# EAGLE library part ADA4851-1YRJZ-RL7 (library MotorControllerEagleLibrary)
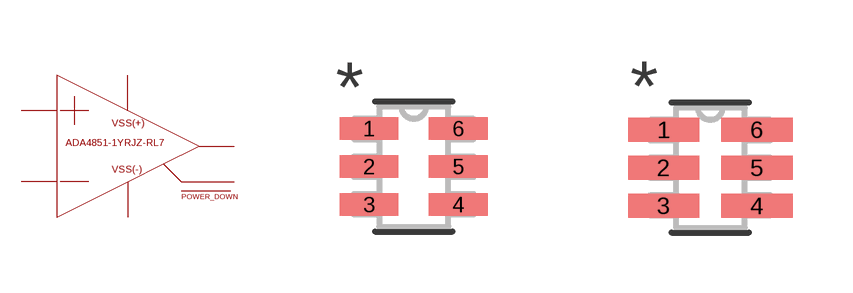
[diagram p4: symbol with the pads of RJ_6; footprints RJ_6, RJ_6-M]

Designator prefix U

## ADA4851-1YRJZ-RL7 (MANUFACTURER_PART_NUMBER: ADA48511YRJZRL7; VENDOR: Analog Devices Inc)  [RJ_6]
1  1
2  2
3  3
4  4
5  5
6  6

## ADA4851-1YRJZ-RL7RJ_6-M (MANUFACTURER_PART_NUMBER: ADA48511YRJZRL7; VENDOR: Analog Devices Inc)  [RJ_6-M]
Pads as for RJ_6

## ADA4851-1YRJZ-RL7RJ_6-L (MANUFACTURER_PART_NUMBER: ADA48511YRJZRL7; VENDOR: Analog Devices Inc)  [RJ_6-L]
Pads as for RJ_6

## Footprint RJ_6 (pad centres in mm)
smd 1.473 x 0.559: 1 -1.118,0.95; 2 -1.118,0; 3 -1.118,-0.95; 4 1.118,-0.95; 5 1.118,0; 6 1.118,0.95

## Footprint RJ_6-M (pad centres in mm)
smd 1.778 x 0.61: 1 -1.168,0.95; 2 -1.168,0; 3 -1.168,-0.95; 4 1.168,-0.95; 5 1.168,0; 6 1.168,0.95

## Footprint RJ_6-L (pad centres in mm)
smd 1.168 x 0.508: 1 -1.067,0.95; 2 -1.067,0; 3 -1.067,-0.95; 4 1.067,-0.95; 5 1.067,0; 6 1.067,0.95